# Altium footprint library battery.PcbLib: 10 footprints
Each footprint in its own frame and in the unit in brackets; x right, y up, seen from the top. Pads: shape width x height; smd on the part's side, far side on the other; paste and mask are expansions set on the pad; w line width, h text height; cw(c..) or ccw(c..) is an arc to the next point about the centre after c.
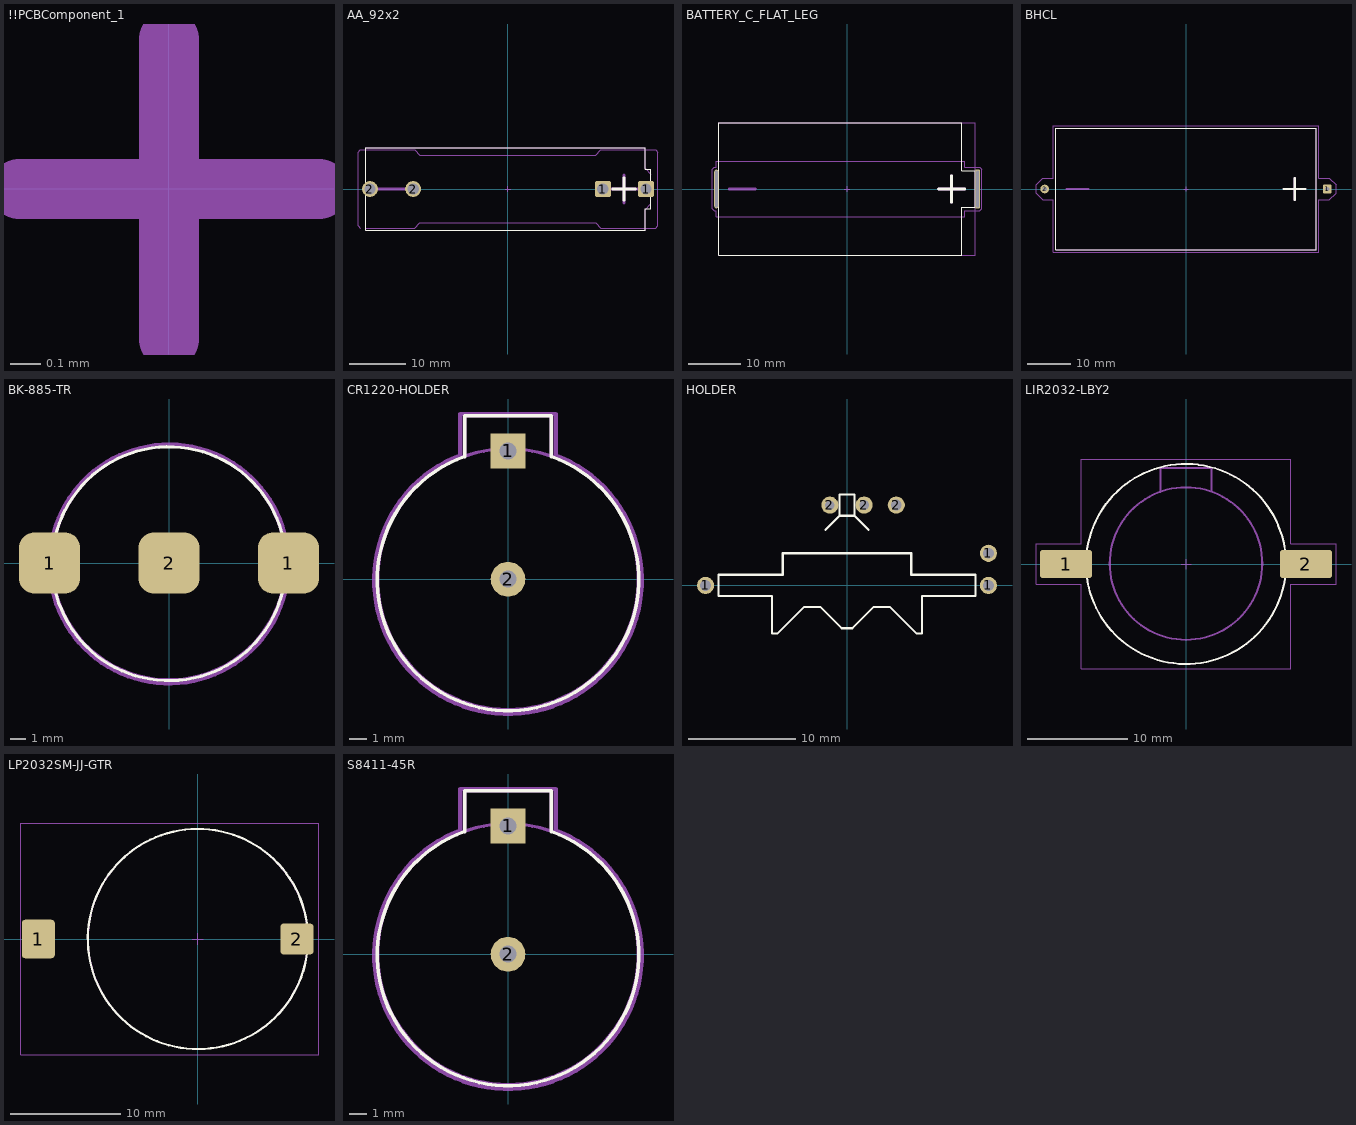
[diagram p0: the footprints below, top view; thin cyan lines are the x and y axes]

## !!PCBComponent_1 [mm]
M3_comm_top:
  text ".comment" at -0.9,-0.3 h1
M7_courtyard_top:
  lines w0.2: -0.5,0 0.5,0 ; 0,-0.5 0,0.5

## AA_92x2 [mm] "92@KEYSTONE"
height 0.025
pads (4):
  rrect20% 2.8x2.8 hole 2: 1(16.765,0) 1(24.385,0)
  round 2.8 hole 2: 2(-24.385,0) 2(-16.765,0)
Top Overlay:
  lines w0.2: -25.15,-7.25 24.25,-7.25 24.25,-3.5 25.25,-3.5 25.25,3.5 24.25,3.5 24.25,7.25 -25.15,7.25 -25.15,-7.25
  lines w0.5: 18.5,0 22.5,0 ; 20.5,-2 20.5,2
M3_comm_top:
  text ".comment" at -0.9,-0.3 h1
M5_asm_top:
  lines w0.2: -25.15,-7.25 -25.15,7.25 24.25,7.25 24.25,3.625 25.25,2.625 25.25,-2.625 24.25,-3.625 24.25,-7.25 -25.15,-7.25
  lines w0.5: -23.1,0 -18.1,0 ; 18,0 23,0 ; 20.5,-2.5 20.5,2.5
  text ".Designator" at -1,1.3 h1
M7_courtyard_top:
  lines w0.2: -26.126,-6.9 -26.5,-6.526 -26.5,6.526 -26.126,6.9 -16.5,6.9 -15.6,6 15.5,6 16.4,6.9 26.126,6.9 26.5,6.526 26.5,-6.526 26.126,-6.9 16.4,-6.9 15.5,-6 -15.6,-6 -16.5,-6.9 -25,-6.9 ; -0.5,0 0.5,0 ; 0,-0.5 0,0.5
3D body: height 15.18, standoff -3.76, extent -26.3,-6.726 -16.767,6.726
3D body: height 15.18, standoff -3.76, extent 16.767,-6.726 26.3,6.726
3D body "User Library-AA Battery.step": height 14.85, standoff 0.35, extent -25.25,-7.25 25.25,7.25
3D body: height 0.25, standoff -0.41, extent 0,0 0,0

## BATTERY_C_FLAT_LEG [mm] "MINAMOTO ER-26500/T Ñ"
height 0.025
pads (2):
  rrect20% 0.8x7.4 hole 0.5 slot 7 at 90 deg mask+0.102: 1(25,0)
  oval 0.8x7.4 hole 0.5 slot 7 at 90 deg mask+0.102: 2(-25,0)
Top Overlay:
  lines w0.2: -24.5,-12.7 22,-12.7 22,-3.5 24.5,-3.5 24.5,3.5 22,3.5 22,12.7 -24.5,12.7 -24.5,-12.7
  lines w0.5: 17.5,0 22.5,0 ; 20,-2.5 20,2.5
M3_comm_top:
  text ".comment" at -0.9,-0.3 h1
M5_asm_top:
  lines w0.2: -24.5,-12.7 -24.5,12.7 24.5,12.7 24.5,-12.7 -24.5,-12.7
  lines w0.5: -22.5,0 -17.5,0 ; 17.5,0 22.5,0 ; 20,-2.5 20,2.5
  text ".Designator" at -1,1.3 h1
M7_courtyard_top:
  lines w0.2: -0.5,0 0.5,0 ; 0,-0.5 0,0.5 ; -25.8,-3.8 -25.4,-4.2 -25,-4.2 -25,-5.3 22.5,-5.3 22.5,-4.2 25.4,-4.2 25.8,-3.8 25.8,3.8 25.4,4.2 22.5,4.2 22.5,5.3 -25,5.3 -25,4.2 -25.4,4.2 -25.8,3.8 -25.8,-3.8
3D body: height 13, standoff -2, extent -25.1,-3.3 -24.9,3.3
3D body: height 13, standoff -2, extent 24.9,-3.3 25.1,3.3
3D body "Battery_C.STEP": height 25.45, standoff 0.05, extent -24.422,-12.7 24.6,12.7
3D body: height 0.25, standoff -0.41, extent 0,0 0,0

## BHCL [mm] "BATTERY HOLDER C SOLDER LUG"
height 0.025
pads (2):
  rrect20% 2x2 hole 1 mask+0.102: 1(32.5,0)
  round 2 hole 1 mask+0.102: 2(-32.5,0)
Top Overlay:
  lines w0.2: -30,-14 30,-14 30,14 -30,14 -30,-14
  lines w0.5: 22.5,0 27.5,0 ; 25,-2.5 25,2.5
M3_comm_top:
  text ".comment" at -0.9,-0.3 h1
M5_asm_top:
  lines w0.2: -30,-14 -30,14 30,14 30,-14 -30,-14
  lines w0.5: -27.5,0 -22.5,0 ; 22.5,0 27.5,0 ; 25,-2.5 25,2.5
  text ".Designator" at -1,1.3 h1
M7_courtyard_top:
  lines w0.2: -0.5,0 0.5,0 ; 0,-0.5 0,0.5 ; -34.5,-1 -34.5,1 ; -34.5,-1 -33,-2.5 -30.5,-2.5 -30.5,-14.5 30.5,-14.5 30.5,-2.5 33,-2.5 34.5,-1 ; -34.5,-1 -34.5,1 ; -34.5,1 -33,2.5 -30.5,2.5 -30.5,14.5 30.5,14.5 30.5,2.5 33,2.5 34.5,1 ; 34.5,-1 34.5,1 ; 34.5,-1 34.5,1
3D body "BHCL (1).STEP": height 28.45, standoff -3.81, extent -30.035,-14.033 30.036,14.034
3D body: height 0.25, standoff -0.41, extent 0,0 0,0

## BK-885-TR [mm]
height 0.025
pads (3):
  rrect50% 4x4 smd mask+0.102: 1(-7.8,0) 1(7.8,0) 2(0,0)
Top Overlay:
  lines w0.203: -2.54,7.163 ccw(c0,-0.044) -2.524,7.168
M1_3D_TOP:
  lines w0.254: -2.794,7.239 ccw(c0,-0.061) -2.792,7.24
M2_SD_BOT:
  circle w0.203: c0,0 r7.624
3D body "BK-885-TR.step": height 3.17, standoff 0, extent -9.78,-6.35 9.78,6.35

## CR1220-HOLDER [mil]
height 1
pads (2):
  rect 80x80 / inner round 80 / far side rect 80x80 hole 39 mask+4: 1(0,295)
  round 80 / inner round 90 / far side round 80 hole 39 mask+4: 2(0,0)
Top Overlay:
  lines w8: -100,282 ccw(c0,-1.72) 100,282 100,376 -100,376 -100,282
M1_3D_TOP:
  lines w10: -110,285 ccw(c0,-2.42) 110,285 110,380 -110,380 -110,285
M2_SD_BOT:
  circle w8: c0,0 r300.17
  lines w8: -100,282 -100,376 100,376 100,284

## HOLDER [mm]
height 0.025
pads (6):
  round 1.6 hole 1 mask+0.102: 1(-13.2,0) 1(13.2,0) 1(13.2,3) 2(4.6,7.5)
  round 1.6 hole 0.9 mask+0.102: 2(-1.6,7.493) 2(1.6,7.5)
Top Overlay:
  lines w0.2: -2,5.2 -0.7,6.5 ; 2,5.2 0.7,6.5 ; -0.7,6.5 0.7,6.5 ; -0.7,6.5 -0.7,8.5 0.7,8.5 0.7,6.5 ; -12,-1 -12,1 -6,1 -6,3 6,3 6,1 12,1 12,-1 7,-1 7,-4.5 6.5,-4.5 4,-2 2.5,-2 0.5,-4 -0.5,-4 -2.5,-2 -4,-2 -6.5,-4.5 -7,-4.5 -7,-1 -12,-1

## LIR2032-LBY2 [mm] "CR2032"
height 0.025
pads (2):
  rrect20% 5.2x2.8 smd mask+0.102: 1(-12,0) 2(12,0)
Top Overlay:
  lines w0.2: 1.203,9.927 ccw(c0,0) 1.266,9.92
M2_SD_BOT:
  circle w0.203: c0,0.044 r7.624
  lines w0.203: -2.54,7.206 -2.54,9.594 2.54,9.594 2.54,7.257
M3_comm_top:
  text ".comment" at -0.9,-0.3 h1
M5_asm_top:
  circle w0.1: c0,0 r10.004
  text ".Designator" at -0.7,10.3 h1
M7_courtyard_top:
  lines w0.1: -0.5,0 0.5,0 ; 0,-0.5 0,0.5 ; -15,-2 -15,2 -10.5,2 -10.5,10.5 10.5,10.5 10.5,2 15,2 15,-2 10.5,-2 10.5,-10.5 -10.5,-10.5 -10.5,-2 -15,-2
3D body "CircuitWorks-BATT CR2032.STEP": height 3.2, standoff 0, extent -10,-9.956 10,10.044

## LP2032SM-JJ-GTR [mm]
height 0.025
pads (2):
  rrect20% 3x3.5 smd mask+0.102: 1(-14.5,0)
  rrect20% 3x2.8 smd mask+0.102: 2(9,0)
Top Overlay:
  lines w0.2: -3.324,9.431 ccw(c0,0) -3.303,9.439
M3_comm_top:
  text ".comment" at -0.9,-0.3 h1
M5_asm_top:
  lines w0.1: 9.972,0.099 cw(c0,0) 9.972,0.1
  text ".Designator" at -1,10.1 h1
M7_courtyard_top:
  lines w0.1: -0.5,0 0.5,0 ; 0,-0.5 0,0.5 ; -16.1,-10.5 11,-10.5 11,10.5 -16.1,10.5 -16.1,-10.5
3D body "LP2032SM-JJ-GTR.step": height 4.7, standoff 0, extent -15.719,-7.442 10.9,7.442
3D body "CircuitWorks-BATT CR2032.step": height 4, standoff 0.8, extent -10,-10 10,10

## S8411-45R [mil]
height 1
pads (2):
  rect 80x80 / inner round 80 / far side rect 80x80 hole 39 mask+4: 1(0,295)
  round 80 / inner round 90 / far side round 80 hole 39 mask+4: 2(0,0)
Top Overlay:
  lines w8: -100,282 ccw(c0,-1.72) 100,282 100,376 -100,376 -100,282
M1_3D_TOP:
  lines w10: -110,285 ccw(c0,-2.42) 110,285 110,380 -110,380 -110,285
M2_SD_BOT:
  circle w8: c0,0 r300.17
  lines w8: -100,282 -100,376 100,376 100,284